# EAGLE library part PSS254 (library tlc5940)
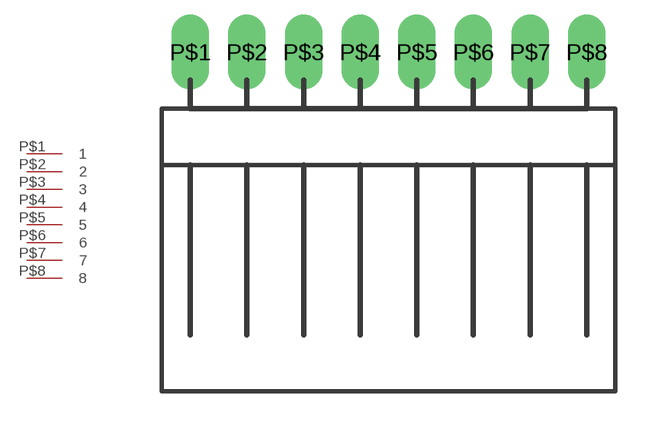
[diagram p1: symbol with the pads of PSS254; footprint PSS254]

Designator prefix -

## PSS254  [PSS254]
P$1  1
P$2  2
P$3  3
P$4  4
P$5  5
P$6  6
P$7  7
P$8  8

## Footprint PSS254 (pad centres in mm)
drill 1 pad 1.676 long: P$1 0,0; P$2 2.54,0; P$3 5.08,0; P$4 7.62,0; P$5 10.16,0; P$6 12.7,0; P$7 15.24,0; P$8 17.78,0